# Altium schematic symbol library RPS45-1-T OS_1.Schlib: 1 symbol
Pins are listed as number, name and electrical type; pins without a type are passive.

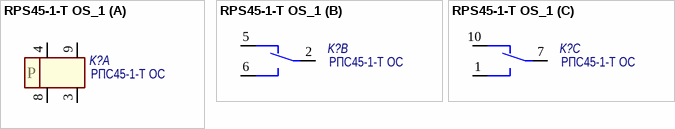
[diagram p0: symbol RPS45-1-T OS_1]

## RPS45-1-T OS_1
designator K?, comment Наименование: РПС45-1-Т ОС  (hidden comment: RPS45-1-T OS)
Реле поляризованное; Назначение: Реле
footprint РПС-45-1
part A pins: 3, 4, 8, 9
part B pins: 2, 5, 6
part C pins: 1, 7, 10
part A text: P